# Altium integrated library Actel ProASIC3.IntLib: 465 symbols (part 56 of 68)
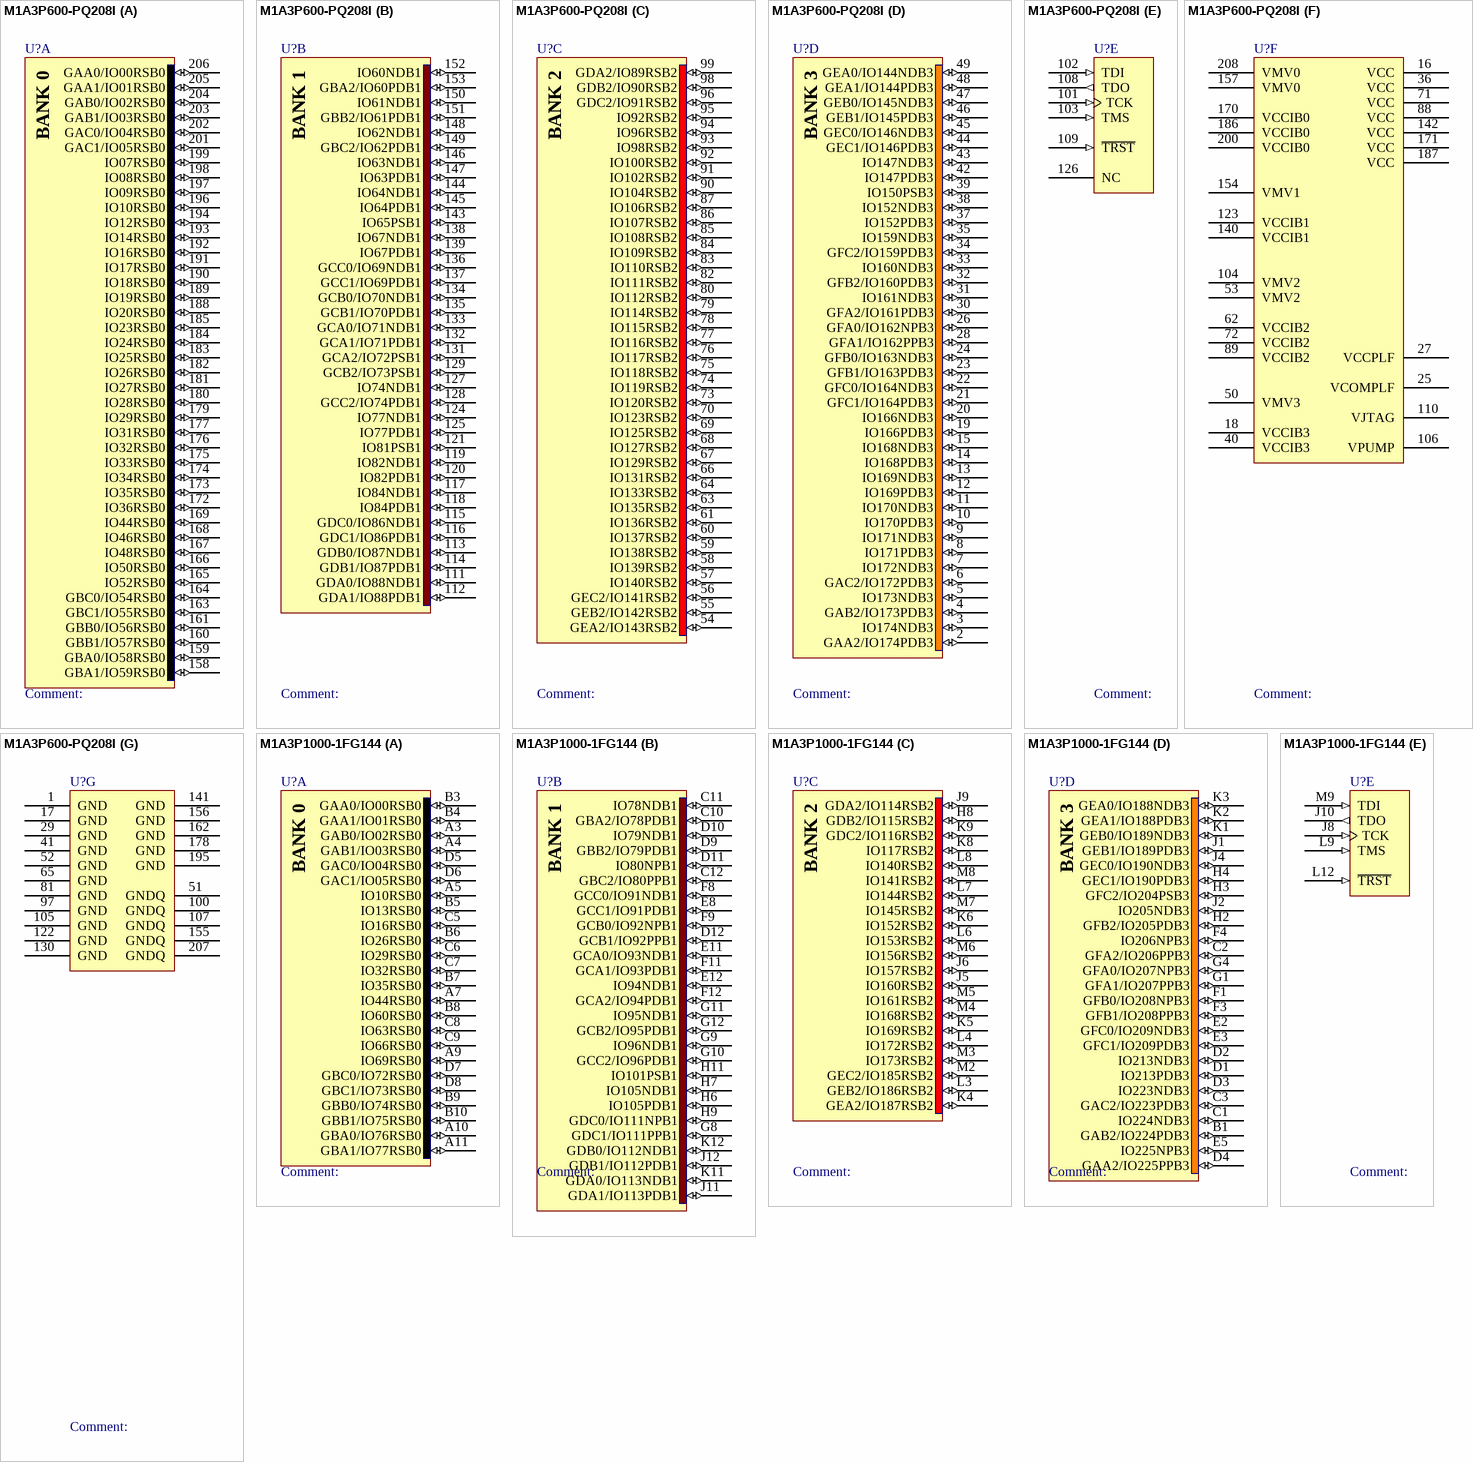
[diagram p451: symbols M1A3P600-PQ208I to M1A3P1000-1FG144]

## M1A3P600-PQ208I
designator U?
M1-Ready ProASIC3 Flash Family FPGA, 154 User IOs, 600K System Gates, 108 Kbits RAM, 1 Kbit Flash ROM, 1 PLL, 208-Pin PQFP, Industrial Grade; DatasheetVersion: v1.3, Oct-2009; PackageVersion: ver11.2, Nov-2009; PackageReference: PQ208; PackageDescription: 208-Pin Plastic Quad Flat Pack (PQ208); Code_JEDEC: MS-029-FA-1; ComponentLink1Description: Manufacturer URL; ComponentLink1URL: http://www.actel.com/; ComponentLink2Description: ProASIC3 Datasheet; ComponentLink2URL: http://www.actel.com/documents/PA3_DS.pdf; ComponentLink3Description: Package Mechanical Drawings; ComponentLink3URL: http://www.actel.com/documents/PckgMechDrwngs.pdf; ComponentLink4Description: ProASIC3 Documents; ComponentLink4URL: http://www.actel.com/products/pa3/docs.aspx
footprint PQ208_N (Shrink QFP, 208-Leads, Body 28x28mm, Pitch 0.5mm, IPC Medium Density)
footprint PQ208_L (Shrink QFP, 208-Leads, Body 28x28mm, Pitch 0.5mm, IPC High Density)
footprint PQ208_M (Shrink QFP, 208-Leads, Body 28x28mm, Pitch 0.5mm, IPC Low Density)
part A pins: 158 GBA1/IO59RSB0 (io), 159 GBA0/IO58RSB0 (io), 160 GBB1/IO57RSB0 (io), 161 GBB0/IO56RSB0 (io), 163 GBC1/IO55RSB0 (io), 164 GBC0/IO54RSB0 (io), 165 IO52RSB0 (io), 166 IO50RSB0 (io), 167 IO48RSB0 (io), 168 IO46RSB0 (io), 169 IO44RSB0 (io), 172 IO36RSB0 (io), 173 IO35RSB0 (io), 174 IO34RSB0 (io), 175 IO33RSB0 (io), 176 IO32RSB0 (io), 177 IO31RSB0 (io), 179 IO29RSB0 (io), 180 IO28RSB0 (io), 181 IO27RSB0 (io), 182 IO26RSB0 (io), 183 IO25RSB0 (io), 184 IO24RSB0 (io), 185 IO23RSB0 (io), 188 IO20RSB0 (io), 189 IO19RSB0 (io), 190 IO18RSB0 (io), 191 IO17RSB0 (io), 192 IO16RSB0 (io), 193 IO14RSB0 (io), 194 IO12RSB0 (io), 196 IO10RSB0 (io), 197 IO09RSB0 (io), 198 IO08RSB0 (io), 199 IO07RSB0 (io), 201 GAC1/IO05RSB0 (io), 202 GAC0/IO04RSB0 (io), 203 GAB1/IO03RSB0 (io), 204 GAB0/IO02RSB0 (io), 205 GAA1/IO01RSB0 (io), 206 GAA0/IO00RSB0 (io)
part B pins: 111 GDA0/IO88NDB1 (io), 112 GDA1/IO88PDB1 (io), 113 GDB0/IO87NDB1 (io), 114 GDB1/IO87PDB1 (io), 115 GDC0/IO86NDB1 (io), 116 GDC1/IO86PDB1 (io), 117 IO84NDB1 (io), 118 IO84PDB1 (io), 119 IO82NDB1 (io), 120 IO82PDB1 (io), 121 IO81PSB1 (io), 124 IO77NDB1 (io), 125 IO77PDB1 (io), 127 IO74NDB1 (io), 128 GCC2/IO74PDB1 (io), 129 GCB2/IO73PSB1 (io), 131 GCA2/IO72PSB1 (io), 132 GCA1/IO71PDB1 (io), 133 GCA0/IO71NDB1 (io), 134 GCB0/IO70NDB1 (io), 135 GCB1/IO70PDB1 (io), 136 GCC0/IO69NDB1 (io), 137 GCC1/IO69PDB1 (io), 138 IO67NDB1 (io), 139 IO67PDB1 (io), 143 IO65PSB1 (io), 144 IO64NDB1 (io), 145 IO64PDB1 (io), 146 IO63NDB1 (io), 147 IO63PDB1 (io), 148 IO62NDB1 (io), 149 GBC2/IO62PDB1 (io), 150 IO61NDB1 (io), 151 GBB2/IO61PDB1 (io), 152 IO60NDB1 (io), 153 GBA2/IO60PDB1 (io)
part C pins: 54 GEA2/IO143RSB2 (io), 55 GEB2/IO142RSB2 (io), 56 GEC2/IO141RSB2 (io), 57 IO140RSB2 (io), 58 IO139RSB2 (io), 59 IO138RSB2 (io), 60 IO137RSB2 (io), 61 IO136RSB2 (io), 63 IO135RSB2 (io), 64 IO133RSB2 (io), 66 IO131RSB2 (io), 67 IO129RSB2 (io), 68 IO127RSB2 (io), 69 IO125RSB2 (io), 70 IO123RSB2 (io), 73 IO120RSB2 (io), 74 IO119RSB2 (io), 75 IO118RSB2 (io), 76 IO117RSB2 (io), 77 IO116RSB2 (io), 78 IO115RSB2 (io), 79 IO114RSB2 (io), 80 IO112RSB2 (io), 82 IO111RSB2 (io), 83 IO110RSB2 (io), 84 IO109RSB2 (io), 85 IO108RSB2 (io), 86 IO107RSB2 (io), 87 IO106RSB2 (io), 90 IO104RSB2 (io), 91 IO102RSB2 (io), 92 IO100RSB2 (io), 93 IO98RSB2 (io), 94 IO96RSB2 (io), 95 IO92RSB2 (io), 96 GDC2/IO91RSB2 (io), 98 GDB2/IO90RSB2 (io), 99 GDA2/IO89RSB2 (io)
part D pins: 2 GAA2/IO174PDB3 (io), 3 IO174NDB3 (io), 4 GAB2/IO173PDB3 (io), 5 IO173NDB3 (io), 6 GAC2/IO172PDB3 (io), 7 IO172NDB3 (io), 8 IO171PDB3 (io), 9 IO171NDB3 (io), 10 IO170PDB3 (io), 11 IO170NDB3 (io), 12 IO169PDB3 (io), 13 IO169NDB3 (io), 14 IO168PDB3 (io), 15 IO168NDB3 (io), 19 IO166PDB3 (io), 20 IO166NDB3 (io), 21 GFC1/IO164PDB3 (io), 22 GFC0/IO164NDB3 (io), 23 GFB1/IO163PDB3 (io), 24 GFB0/IO163NDB3 (io), 26 GFA0/IO162NPB3 (io), 28 GFA1/IO162PPB3 (io), 30 GFA2/IO161PDB3 (io), 31 IO161NDB3 (io), 32 GFB2/IO160PDB3 (io), 33 IO160NDB3 (io), 34 GFC2/IO159PDB3 (io), 35 IO159NDB3 (io), 37 IO152PDB3 (io), 38 IO152NDB3 (io), 39 IO150PSB3 (io), 42 IO147PDB3 (io), 43 IO147NDB3 (io), 44 GEC1/IO146PDB3 (io), 45 GEC0/IO146NDB3 (io), 46 GEB1/IO145PDB3 (io), 47 GEB0/IO145NDB3 (io), 48 GEA1/IO144PDB3 (io), 49 GEA0/IO144NDB3 (io)
part E pins: 101 TCK (in), 102 TDI (in), 103 TMS (in), 108 TDO (out), 109 ~{TRST} (in), 126 NC
part F pins: 16 VCC (power), 18 VCCIB3 (power), 25 VCOMPLF (power), 27 VCCPLF (power), 36 VCC (power), 40 VCCIB3 (power), 50 VMV3 (power), 53 VMV2 (power), 62 VCCIB2 (power), 71 VCC (power), 72 VCCIB2 (power), 88 VCC (power), 89 VCCIB2 (power), 104 VMV2 (power), 106 VPUMP (power), 110 VJTAG (power), 123 VCCIB1 (power), 140 VCCIB1 (power), 142 VCC (power), 154 VMV1 (power), 157 VMV0 (power), 170 VCCIB0 (power), 171 VCC (power), 186 VCCIB0 (power), 187 VCC (power), 200 VCCIB0 (power), 208 VMV0 (power)
part G pins: 1 GND (power), 17 GND (power), 29 GND (power), 41 GND (power), 51 GNDQ (power), 52 GND (power), 65 GND (power), 81 GND (power), 97 GND (power), 100 GNDQ (power), 105 GND (power), 107 GNDQ (power), 122 GND (power), 130 GND (power), 141 GND (power), 155 GNDQ (power), 156 GND (power), 162 GND (power), 178 GND (power), 195 GND (power), 207 GNDQ (power)
part A text: BANK 0
part B text: BANK 1
part C text: BANK 2
part D text: BANK 3

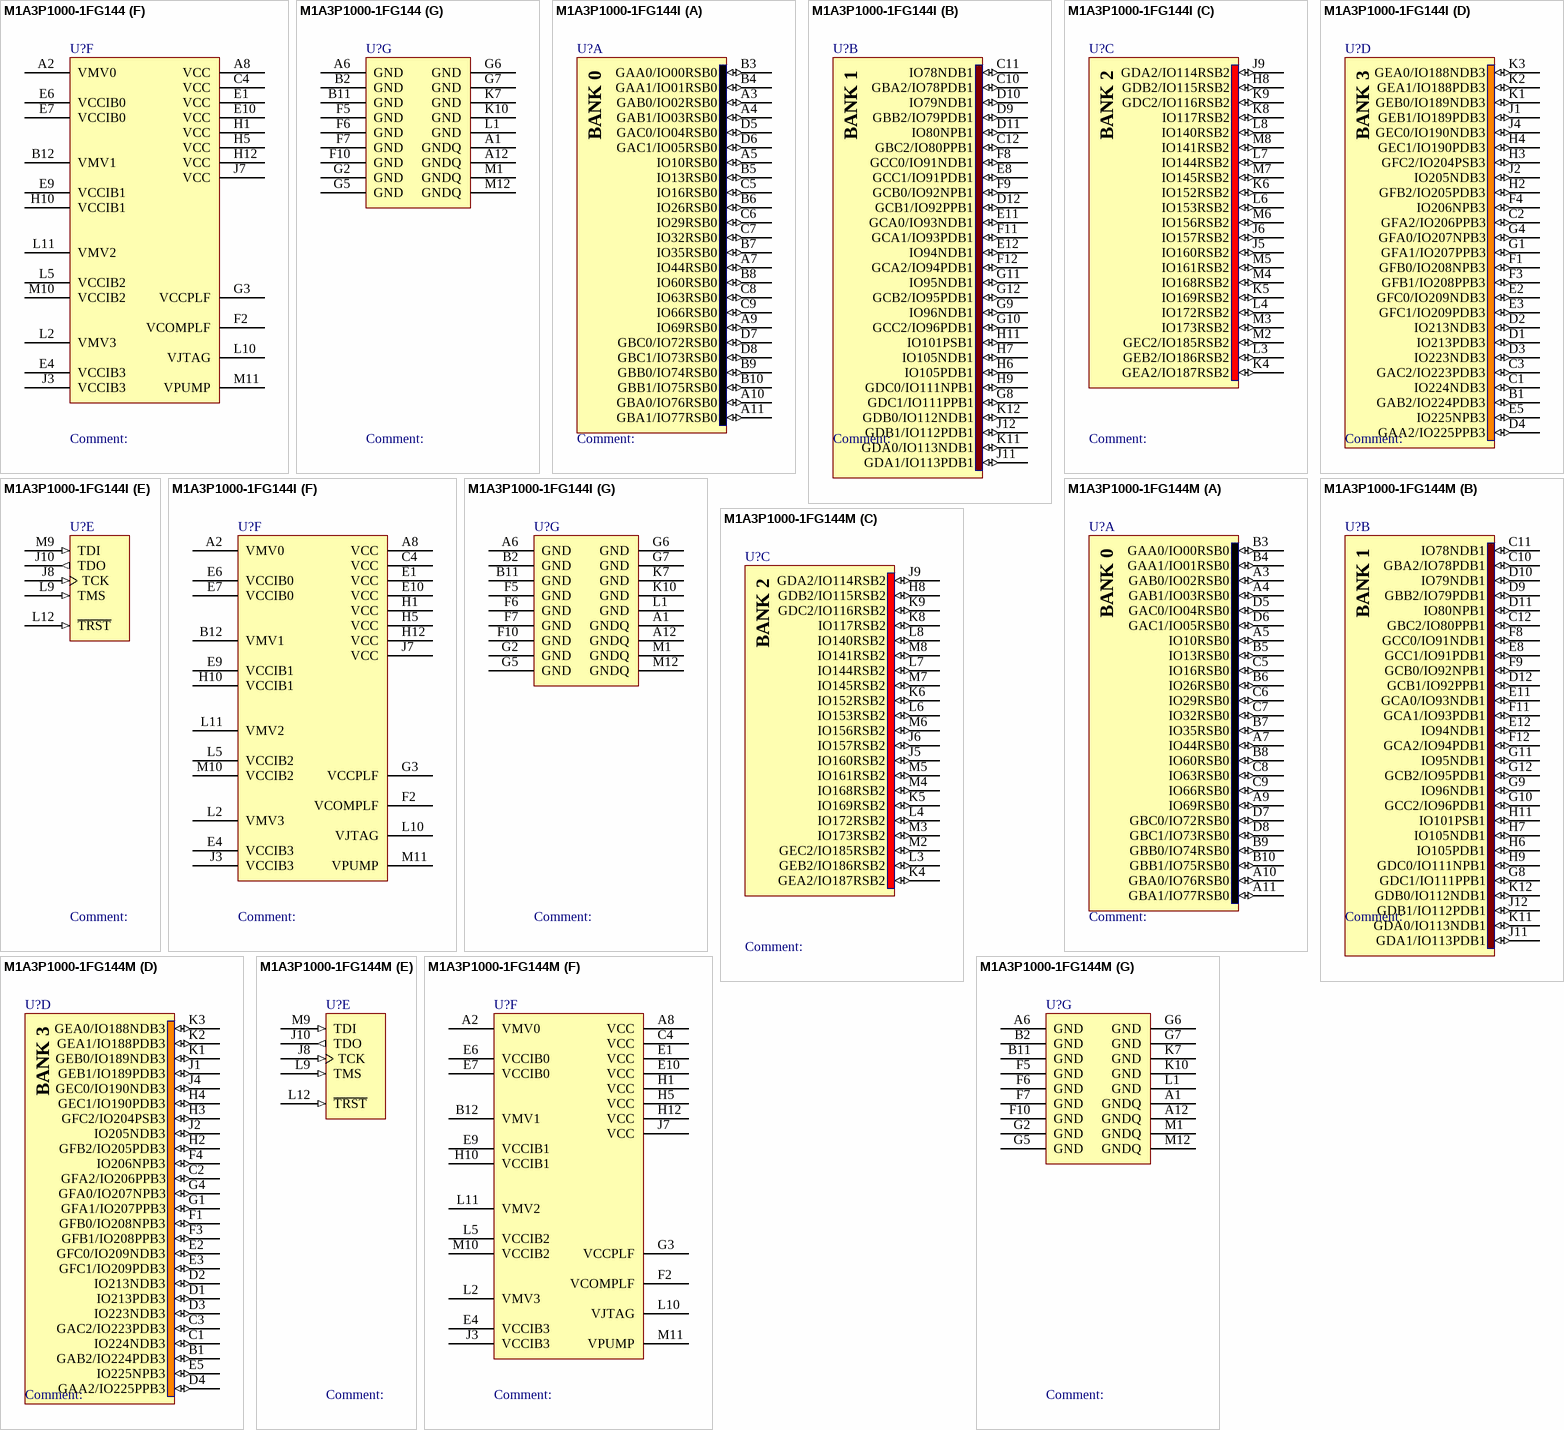
[diagram p219: symbols M1A3P1000-1FG144 to M1A3P1000-1FG144M]